# Altium schematic symbol library AD5314ARMZ.SchLib: 1 symbol
Pins are listed as number, name and electrical type; pins without a type are passive.

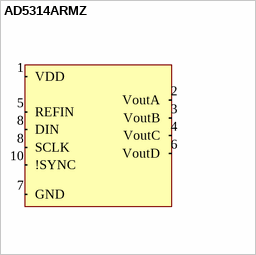
[diagram p0: symbol AD5314ARMZ]

## AD5314ARMZ
designator DAC?, comment LED
Manufacturer_id: 1; idFuse: 3; Name: 3568 Mini Fuse Holder; Drawer_id: 1
pins: 1 VDD (in), 2 VoutA (in), 3 VoutB (in), 4 VoutC (in), 5 REFIN (in), 6 VoutD (in), 7 GND (in), 8 SCLK (in), 8 DIN (in), 10 !SYNC (in)